# EAGLE library part 61201421721 (library 61201421721)
WR-BHD 2.54mm Male Angled Box Header, 14 Pins=>Code : Con_WTB_BHD_2.54_Male_THT_WS_61201421721 <http://katalog.we-online.de/media/thumbs2/eican/thb_Con_WTB_BHD_2.54_Male_THT_WS_6120xx21721_pf2.jpg> Details see: http://katalog.we-online.de/en/em/612_0xx_217_21 Created 2014-06-05, Karrer Zheng 2014 (C) Würth Elektronik Check prices <https://pricing.snapeda.com/parts/61201421721/W%C3%BCrth%20Elektronik/view-part?ref=eda>
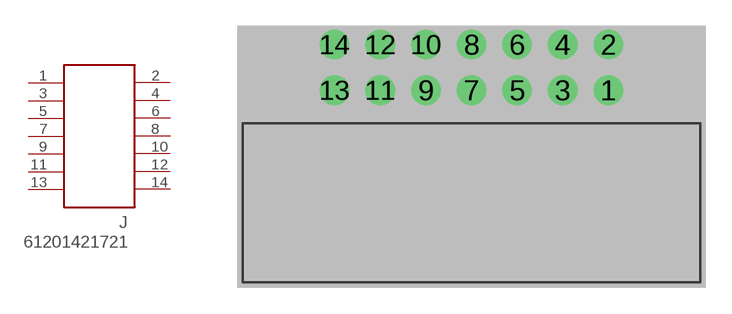
[diagram p0: symbol with the pads of 61201421721; footprint 61201421721]

Designator prefix J

## 61201421721 (AVAILABILITY: In Stock; DESCRIPTION: Connector Header Through Hole, Right Angle 14 position 0.100 (2.54mm); MF: Würth Elektronik; MP: 61201421721; PACKAGE: None; PRICE: None)  [61201421721]
1  1  pas
2  2  pas
3  3  pas
4  4  pas
5  5  pas
6  6  pas
7  7  pas
8  8  pas
9  9  pas
10  10  pas
11  11  pas
12  12  pas
13  13  pas
14  14  pas

## Footprint 61201421721 (pad centres in mm)
WR-BHD 2.54mm Male Angled Box Header, 14 Pins
drill 1.1: 1 7.62,-1.27; 2 7.62,1.27; 3 5.08,-1.27; 4 5.08,1.27; 5 2.54,-1.27; 6 2.54,1.27; 7 0,-1.27; 8 0,1.27; 9 -2.54,-1.27; 10 -2.54,1.27; 11 -5.08,-1.27; 12 -5.08,1.27; 13 -7.62,-1.27; 14 -7.62,1.27